# Altium integrated library Texas Instruments Interface 1394.IntLib: 47 symbols (part 17 of 17)
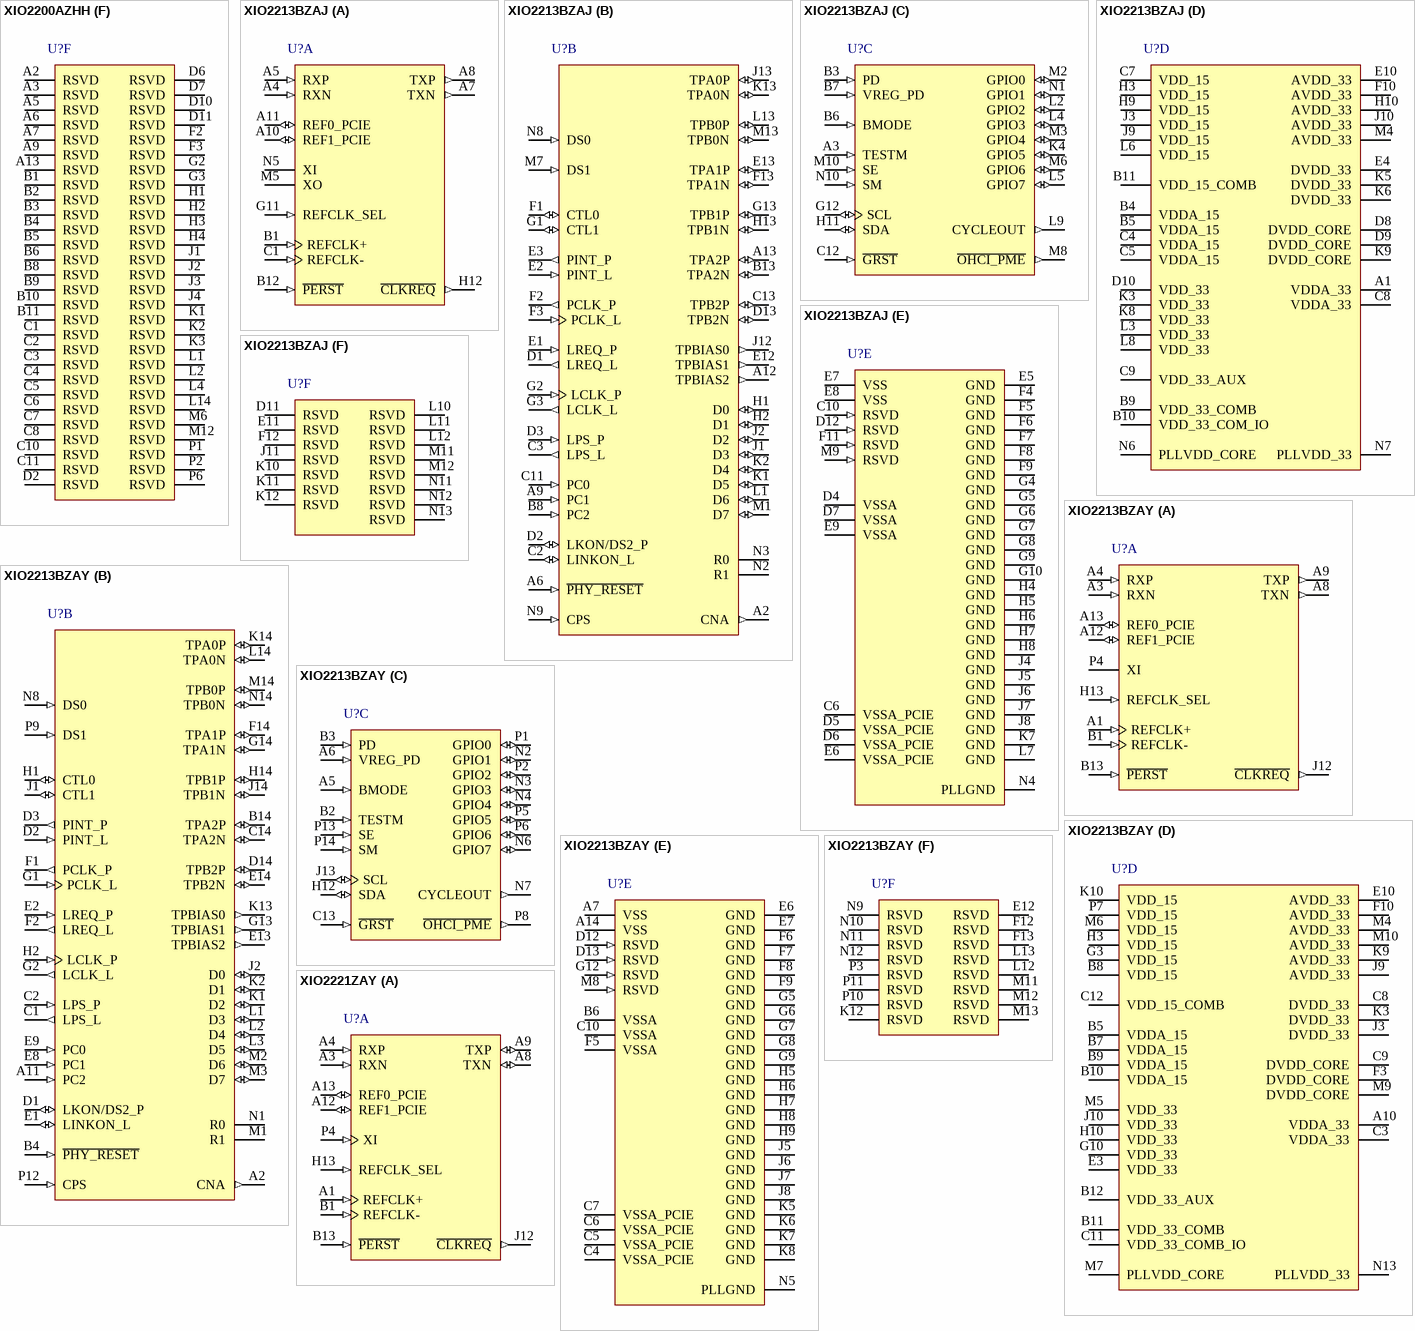
[diagram p27: symbols XIO2200AZHH to XIO2221ZAY]

## XIO2213BZAY
designator U?
PCI Express to 1394b OHCI with 3-Port PHY, 0 to 70 degC, 167-Pin NFBGA (ZAY), Green (RoHS & no Sb/Br); PartNumber: XIO2213BZAY; Manufacturer: Texas Instruments; SubFamily: 1394 Integrated Device; Speed(Max)(Mbps): 800; FIFO(kb): 8; DatasheetVersion: SCPS210D; PackageVersion: revC, Sep-2010; PackageReference: ZAY167; PackageDescription: 167-Ball Plastic Ball Grid Array, 12 x 12 mm Body, 0.8 mm Pitch; Mounting Technology: Surface Mount; ComponentLink1Description: Datasheet; ComponentLink1URL: http://www.ti.com/general/docs/lit/getliterature.tsp?genericPartNumber=XIO2213B&fileType=pdf; ComponentLink2Description: Package Specification; ComponentLink2URL: http://www.ti.com/litv/pdf/mpbg782b
footprint TI-ZAY167 (BGA, 167-Leads, Body 12x12mm, Pitch 0.8mm)
part A pins: A1 REFCLK+ (in) "Reference clock positive. REFCLK+ and REFCLK- comprise the differential input pair for the 100-MHz system reference clock. [see datasheet]", A3 RXN (in) "High-speed receive pair. RXP and RXN comprise the differential receive pair for the single PCIe lane supported.", A4 RXP (in) "High-speed receive pair. RXP and RXN comprise the differential receive pair for the single PCIe lane supported.", A8 TXN (out) "High-speed transmit pair. TXP and TXN comprise the differential transmit pair for the single PCIe lane supported.", A9 TXP (out) "High-speed transmit pair. TXP and TXN comprise the differential transmit pair for the single PCIe lane supported.", A12 REF1_PCIE (io) "External reference resistor + and terminals for setting TX driver current. An external resistor is connected between terminals REF0_PCIE and REF1_PCIE.", A13 REF0_PCIE (io) "External reference resistor + and terminals for setting TX driver current. An external resistor is connected between terminals REF0_PCIE and REF1_PCIE.", B1 REFCLK- (in) "Reference clock negative. REFCLK+ and REFCLK- comprise the differential input pair for the 100-MHz system reference clock. [see datasheet]", B13 ~{PERST} (in) "PCI Express reset. PERST identifies when the system power is stable and generates an internal power-on reset. Note: The PERST input buffer has hysteresis.", H13 REFCLK_SEL (in) "Reference clock select. This terminal selects the reference clock input.0 = 100-MHz differential common reference clock used.0 = 100-MHz differential common reference clock used", J12 ~{CLKREQ} (out) "Clock request. This terminal is used to support the clock request protocol.", P4 XI "Oscillator input. This terminal connects to a 98.304-MHz low-jitter external oscillator. XI is a 1.8-V CMOS input. Oscillator jitter must be 5-ps RMS or better. If only 3. [see datasheet]"
part B pins: A2 CNA (out) "Cable not active. This terminal is asserted high when there are no ports receiving incoming bias voltage. If it is not used, this terminal should be left unconnected.", A11 PC2 (in) "Power-class programming. On hardware reset, these inputs set the default value of the power class indicated during self-ID. [see datasheet]", B4 ~{PHY_RESET} (in) "Reset for the 1394 PHY logic", B14 TPA2P (io) "Port 2 twisted-pair cable A differential. [see datasheet]", C1 LPS_L (out) "LLC-section power status. This terminal must be connected to the LPS_P input terminal of the PHY section.", C2 LPS_P (in) "Link power status. This terminal must be connected to the LPS_L ouput terminal of the LLC section.", C14 TPA2N (io) "Port 2 twisted-pair cable A differential. [see datasheet]", D1 LKON/DS2_P (io) "Link-on notification. If port is to operate in DS mode or is unused then it is necessary to pull the terminal high through a 470-ohm or smaller resistor. [see datasheet]", D2 PINT_L (in) "PHY-section interrupt. The PHY section uses this signal to transfer status and interrupt information serially to the LLC section. [see datasheet]", D3 PINT_P (out) "PHY-section interrupt. PINT_P is a serial input to the LLC section from the PHY section that is used to transfer status, register, interrupt, and other information to the link. [see datasheet]", D14 TPB2P (io) "Port 2 twisted-pair cable A differential. [see datasheet]", E1 LINKON_L (io) "Link-on notification. [see datasheet]", E2 LREQ_P (in) "LLC-section request. [see datasheet]", E8 PC1 (in) "Power-class programming. On hardware reset, these inputs set the default value of the power class indicated during self-ID. [see datasheet]", E9 PC0 (in) "Power-class programming. On hardware reset, these inputs set the default value of the power class indicated during self-ID. [see datasheet]", E13 TPBIAS2 (out) "Twisted-pair bias. These terminals provide the 1. [see datasheet]", E14 TPB2N (io) "Port 2 twisted-pair cable A differential. [see datasheet]", F1 PCLK_P (out) "PHY-section clock. This terminal must be connected to the PCLK_L input of the LLC section.", F2 LREQ_L (out) "LLC-section request. The LLC section uses this output to initiate a service request to the PHY section.This terminal must be connected to the LREQ_P input of the PHY section.", F14 TPA1P (io) "Port 1 twisted-pair cable A differential. [see datasheet]", G1 PCLK_L (in) "PHY-section clock. This terminal must be connected to the PCLK_P output of the PHY section.", G2 LCLK_L (out) "LLC-section clock. This terminal must be connected to the LCLK_P input terminal of the PHY section.", G13 TPBIAS1 (out) "Twisted-pair bias. These terminals provide the 1. [see datasheet]", G14 TPA1N (io) "Port 1 twisted-pair cable A differential. [see datasheet]", H1 CTL0 (io) "Control. CTL[1:0] are bidirectional control bus signals that are used to indicate the phase of operation of the PHY link interface. [see datasheet]", H2 LCLK_P (in) "LLC-section clock. This terminal must be connected to the LCLK_L output terminal of the LLC section.", H14 TPB1P (io) "Port 1 twisted-pair cable A differential. [see datasheet]", J1 CTL1 (io) "Control. CTL[1:0] are bidirectional control bus signals that are used to indicate the phase of operation of the PHY link interface. [see datasheet]", J2 D0 (io) "PHY-section interrupt. The PHY section uses this signal to transfer status and interrupt information serially to the LLC section. [see datasheet]", J14 TPB1N (io) "Port 1 twisted-pair cable A differential. [see datasheet]", K1 D2 (io) "Data. D[7:0] comprise a bidirectional data bus that is used to carry 1394 packet data, packet speed, and grant type information between the PHY and the link. [see datasheet]", K2 D1 (io) "Data. D[7:0] comprise a bidirectional data bus that is used to carry 1394 packet data, packet speed, and grant type information between the PHY and the link. [see datasheet]", K13 TPBIAS0 (out) "Twisted-pair bias. These terminals provide the 1. [see datasheet]", K14 TPA0P (io) "Port 0 twisted-pair cable A differential. [see datasheet]", L1 D3 (io) "Data. D[7:0] comprise a bidirectional data bus that is used to carry 1394 packet data, packet speed, and grant type information between the PHY and the link. [see datasheet]", L2 D4 (io) "Data. D[7:0] comprise a bidirectional data bus that is used to carry 1394 packet data, packet speed, and grant type information between the PHY and the link. [see datasheet]", L3 D5 (io) "Data. D[7:0] comprise a bidirectional data bus that is used to carry 1394 packet data, packet speed, and grant type information between the PHY and the link. [see datasheet]", L14 TPA0N (io) "Port 0 twisted-pair cable A differential. [see datasheet]", M1 R1 "Current-setting resistor. These terminals are connected to an external resistance to set the internal operating currents and cable driver output currents. A resistance of 6. [see datasheet]", M2 D6 (io) "Data. D[7:0] comprise a bidirectional data bus that is used to carry 1394 packet data, packet speed, and grant type information between the PHY and the link. [see datasheet]", M3 D7 (io) "Data. D[7:0] comprise a bidirectional data bus that is used to carry 1394 packet data, packet speed, and grant type information between the PHY and the link. [see datasheet]", M14 TPB0P (io) "Port 0 twisted-pair cable A differential. [see datasheet]", N1 R0 "Current-setting resistor. These terminals are connected to an external resistance to set the internal operating currents and cable driver output currents. A resistance of 6. [see datasheet]", N8 DS0 (in) "Data-strobe-only mode for port 0. IEEE Std 1394a-2000-only port-0-enable programming terminal. [see datasheet]", N14 TPB0N (io) "Port 0 twisted-pair cable A differential. [see datasheet]", P9 DS1 (in) "Data-strobe-only mode for port 1. IEEE Std 1394a-2000-only port-1-enable programming terminal. [see datasheet]", P12 CPS (in) "Cable power status. This terminal is normally connected to cable power through a 400-kohm resistor. This circuit drives an internal comparator that detects the presence of cable power. [see datasheet]"
part C pins: A5 BMODE (in) "Beta mode. This terminal determines the PHY-section/LLC-section interface connection protocol. [see datasheet]", A6 VREG_PD (in) "Voltage regulator power-down input. When asserted logic high, this pin will power-down the internal 3.3- to 1.95V regulator. For single 3. [see datasheet]", B2 TESTM (in) "Test control. This input is used in the manufacturing test of the XIO2213B. For normal use, this terminal must be pulled high through a 1-kohm resistor to VDD.", B3 PD (in) "Power down. A high on this terminal turns off all internal circuitry, except the cable-active monitor circuits that control the CNA output. [see datasheet]", C13 ~{GRST} (in) "Global power reset. This reset brings all of the XIO2213B internal link registers to their default states. This should be a one-time power-on reset. [see datasheet]", H12 SDA (io) "Serial-bus data. This signal is used as serial bus data when a pullup is detected on SDA or when the SBDETECT bit is set in the serial bus control and status register. [see datasheet]", J13 SCL (io) "Serial-bus clock. This signal is used as a serial bus clock when a pullup is detected on SDA or when the SBDETECT bit is set in the serial bus control and status register. [see datasheet]", N2 GPIO1 (io) "General-purpose I/O 1. This terminal functions as a GPIO controlled by bit 1 (GPIO1_DIR) in the GPIO control register (see Section 4.60). [see datasheet]", N3 GPIO3 (io) "General-purpose I/O 3. This terminal functions as a GPIO controlled by bit 3 GPIO3_DIR) in the GPIO control register (see Section 4.60). [see datasheet]", N4 GPIO4 (io) "General-purpose I/O 4. This terminal functions as a GPIO controlled by bit 4 GPIO4_DIR) in the GPIO control register (see Section 4.60). [see datasheet]", N6 GPIO7 (io) "General-purpose I/O 7. This terminal functions as a GPIO controlled by bit 7 (GPIO7_DIR) in the GPIO control register (see Section 4.60). [see datasheet]", N7 CYCLEOUT (out) "Cycle out. This terminal provides an 8-kHz cycle timer synchronization signal. If not implemented, this terminal should be left unconnected.", P1 GPIO0 (io) "General-purpose I/O 0. This terminal functions as a GPIO controlled by bit 0 (GPIO0_DIR) in the GPIO control register (see Section 4.60). [see datasheet]", P2 GPIO2 (io) "General-purpose I/O 2. This terminal functions as a GPIO controlled by bit 2 (GPIO2_DIR) in the GPIO control register (see Section 4.60). [see datasheet]", P5 GPIO5 (io) "General-purpose I/O 5. This terminal functions as a GPIO controlled by bit 5 (GPIO5_DIR) in the GPIO control register (see Section 4.60). [see datasheet]", P6 GPIO6 (io) "General-purpose I/O 6. This terminal functions as a GPIO controlled by bit 6 (GPIO6_DIR) in the GPIO control register (see Section 4.60). [see datasheet]", P8 ~{OHCI_PME} (out) "OHCI power-management event. This is an optional signal that can be used by a device to request a change in the device or system power state. This signal must be enabled by software.", P13 SE (in) "Test control. This input is used in the manufacturing test of the XIO2213B. For normal use, this terminal must be pulled low either through a 1-kohm resistor to GND or directly to GND.", P14 SM (in) "Test control. This input is used in the manufacturing test of the XIO2213B. For normal use, this terminal must be pulled low either through a 1-kohm resistor to GND or directly to GND. [see datasheet]"
part D pins: A10 VDDA_33 (power) "3.3-V analog power for the link. This supply terminal is separated from the other power terminals internal to the device to provide noise isolation.", B5 VDDA_15 (power) "1.5-V analog power for the link", B7 VDDA_15 (power) "1.5-V analog power for the link", B8 VDD_15 (power) "1.5-V digital core power for the link", B9 VDDA_15 (power) "1.5-V analog power for the link", B10 VDDA_15 (power) "1.5-V analog power for the link", B11 VDD_33_COMB "Internal 3.3-V main power output for external bypass capacitor filtering Caution: Do not use this terminal to supply external power to other devices.", B12 VDD_33_AUX (power) "This terminal is connected to VSS through a pulldown resistor,since the XIO2213B does not support auxiliary power.", C3 VDDA_33 (power) "3.3-V analog power for the link. This supply terminal is separated from the other power terminals internal to the device to provide noise isolation.", C8 DVDD_33 (power) "3.3-V digital I/O power for the PHY", C9 DVDD_CORE (power) "Digital 1.95-V circuit power for the PHY. A combination of high-frequency decoupling capacitors near each terminal is suggested, such as paralleled 0.1 mF and 0.001 mF. [see datasheet]", C11 VDD_33_COMB_IO "Internal 3.3-V IO power output for external bypass capacitor filtering", C12 VDD_15_COMB "Internal 1.5-V main power output for external bypass capacitor filtering Caution: Do not use this terminal to supply external power to other devices.", E3 VDD_33 (power) "3.3-V digital I/O power for the link", E10 AVDD_33 (power) "3.3-V analog power for the PHY", F3 DVDD_CORE (power) "Digital 1.95-V circuit power for the PHY. A combination of high-frequency decoupling capacitors near each terminal is suggested, such as paralleled 0.1 mF and 0.001 mF. [see datasheet]", F10 AVDD_33 (power) "3.3-V analog power for the PHY", G3 VDD_15 (power) "1.5-V digital core power for the link", G10 VDD_33 (power) "3.3-V digital I/O power for the link", H3 VDD_15 (power) "1.5-V digital core power for the link", H10 VDD_33 (power) "3.3-V digital I/O power for the link", J3 DVDD_33 (power) "3.3-V digital I/O power for the PHY", J9 AVDD_33 (power) "3.3-V analog power for the PHY", J10 VDD_33 (power) "3.3-V digital I/O power for the link", K3 DVDD_33 (power) "3.3-V digital I/O power for the PHY", K9 AVDD_33 (power) "3.3-V analog power for the PHY", K10 VDD_15 (power) "1.5-V digital core power for the link", M4 AVDD_33 (power) "3.3-V analog power for the PHY", M5 VDD_33 (power) "3.3-V digital I/O power for the link", M6 VDD_15 (power) "1.5-V digital core power for the link", M7 PLLVDD_CORE (power) "PLL 1.95-V circuit power for the PHY. A combination of high-frequency decoupling capacitors near each terminal is suggested, such as paralleled 0.1 mF and 0.001 mF. [see datasheet]", M9 DVDD_CORE (power) "Digital 1.95-V circuit power for the PHY. A combination of high-frequency decoupling capacitors near each terminal suggested, such as paralleled 0.1 mF and 0.001 mF. [see datasheet]", M10 AVDD_33 (power) "3.3-V analog power for the PHY", N13 PLLVDD_33 "Reserved, do not connect to external signals.", P7 VDD_15 (power) "1.5-V digital core power for the link"
part E pins: A7 VSS (power) "Digital ground for link", A14 VSS (power) "Digital ground for link", B6 VSSA (power) "Analog ground for link", C4 VSSA_PCIE (power) "Analog ground for PCIe function", C5 VSSA_PCIE (power) "Analog ground for PCIe function", C6 VSSA_PCIE (power) "Analog ground for PCIe function", C7 VSSA_PCIE (power) "Analog ground for PCIe function", C10 VSSA (power) "Analog ground for link", D12 RSVD (in) "Must be connected to VSS.", D13 RSVD (in) "Must be connected to VSS.", E6 GND (power) "Ground. These terminals must be tied together to the low-impedance circuit-board ground plane.", E7 GND (power) "Ground. These terminals must be tied together to the low-impedance circuit-board ground plane.", F5 VSSA (power) "Analog ground for link", F6 GND (power) "Ground. These terminals must be tied together to the low-impedance circuit-board ground plane.", F7 GND (power) "Ground. These terminals must be tied together to the low-impedance circuit-board ground plane.", F8 GND (power) "Ground. These terminals must be tied together to the low-impedance circuit-board ground plane.", F9 GND (power) "Ground. These terminals must be tied together to the low-impedance circuit-board ground plane.", G5 GND (power) "Ground. These terminals must be tied together to the low-impedance circuit-board ground plane.", G6 GND (power) "Ground. These terminals must be tied together to the low-impedance circuit-board ground plane.", G7 GND (power) "Ground. These terminals must be tied together to the low-impedance circuit-board ground plane.", G8 GND (power) "Ground. These terminals must be tied together to the low-impedance circuit-board ground plane.", G9 GND (power) "Ground. These terminals must be tied together to the low-impedance circuit-board ground plane.", G12 RSVD (in) "Must be connected to VSS.", H5 GND (power) "Ground. These terminals must be tied together to the low-impedance circuit-board ground plane.", H6 GND (power) "Ground. These terminals must be tied together to the low-impedance circuit-board ground plane.", H7 GND (power) "Ground. These terminals must be tied together to the low-impedance circuit-board ground plane.", H8 GND (power) "Ground. These terminals must be tied together to the low-impedance circuit-board ground plane.", H9 GND (power) "Ground. These terminals must be tied together to the low-impedance circuit-board ground plane.", J5 GND (power) "Ground. These terminals must be tied together to the low-impedance circuit-board ground plane.", J6 GND (power) "Ground. These terminals must be tied together to the low-impedance circuit-board ground plane.", J7 GND (power) "Ground. These terminals must be tied together to the low-impedance circuit-board ground plane.", J8 GND (power) "Ground. These terminals must be tied together to the low-impedance circuit-board ground plane.", K5 GND (power) "Ground. These terminals must be tied together to the low-impedance circuit-board ground plane.", K6 GND (power) "Ground. These terminals must be tied together to the low-impedance circuit-board ground plane.", K7 GND (power) "Ground. These terminals must be tied together to the low-impedance circuit-board ground plane.", K8 GND (power) "Ground. These terminals must be tied together to the low-impedance circuit-board ground plane.", M8 RSVD (in) "Must be connected to VSS.", N5 PLLGND (power) "PLL circuit ground. This terminal must be tied to the low-impedance circuit-board ground plane."
part F pins: E12 RSVD "Reserved, do not connect to external signals.", F12 RSVD "Reserved, do not connect to external signals.", F13 RSVD "Reserved, do not connect to external signals.", K12 RSVD "Reserved, do not connect to external signals.", L12 RSVD "Reserved, do not connect to external signals.", L13 RSVD "Reserved, do not connect to external signals.", M11 RSVD "Reserved, do not connect to external signals.", M12 RSVD "Reserved, do not connect to external signals.", M13 RSVD "Reserved, do not connect to external signals.", N9 RSVD "Reserved, do not connect to external signals.", N10 RSVD "Reserved, do not connect to external signals.", N11 RSVD "Reserved, do not connect to external signals.", N12 RSVD "Reserved, do not connect to external signals.", P3 RSVD "Reserved, do not connect to external signals.", P10 RSVD "Reserved, do not connect to external signals.", P11 RSVD "Reserved, do not connect to external signals."

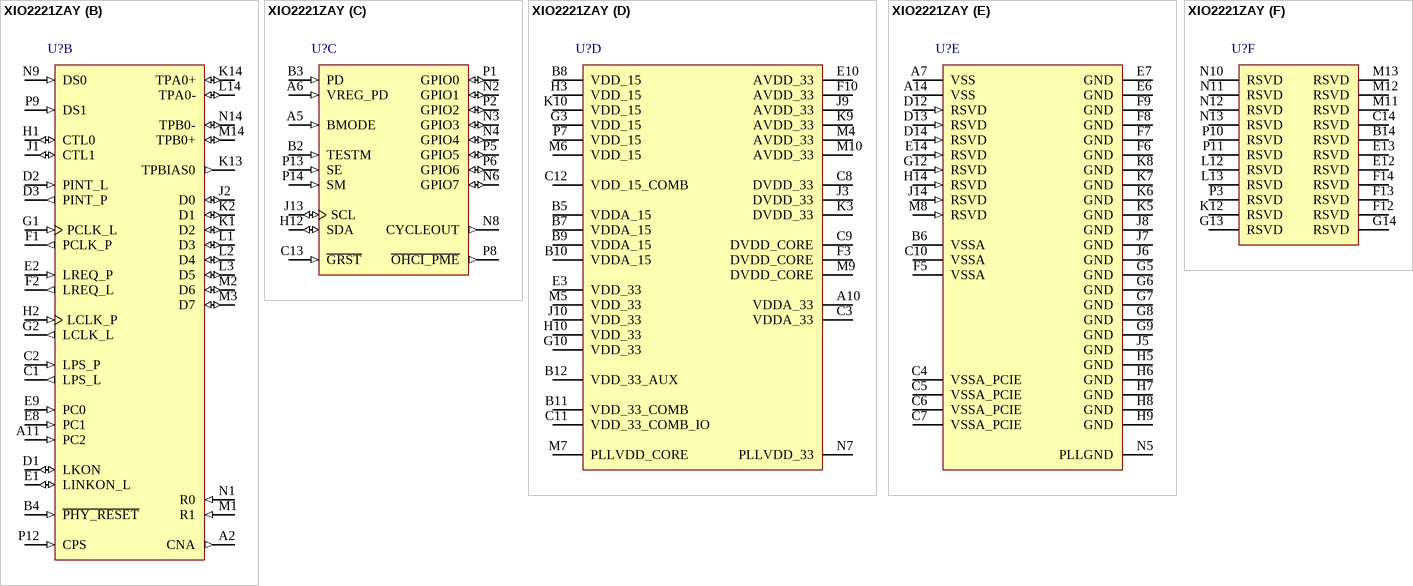
[diagram p11: symbol XIO2221ZAY]

## XIO2221ZAY
designator U?
PCI Express to 1394b OHCI with 1-Port PHY, 0 to 70 degC, 167-Pin NFBGA (ZAY), Green (RoHS & no Sb/Br); PartNumber: XIO2221ZAY; Manufacturer: Texas Instruments; SubFamily: 1394 Integrated Device; Speed(Max)(Mbps): 800; FIFO(kb): 8; DatasheetVersion: SCPS216A; PackageVersion: revC, Sep-2010; PackageReference: ZAY167; PackageDescription: 167-Ball Plastic Ball Grid Array, 12 x 12 mm Body, 0.8 mm Pitch; Mounting Technology: Surface Mount; ComponentLink1Description: Datasheet; ComponentLink1URL: http://www.ti.com/general/docs/lit/getliterature.tsp?genericPartNumber=XIO2221&fileType=pdf; ComponentLink2Description: Package Specification; ComponentLink2URL: http://www.ti.com/litv/pdf/mpbg782b
footprint TI-ZAY167 (BGA, 167-Leads, Body 12x12mm, Pitch 0.8mm)
part A pins: A1 REFCLK+ (in) "Reference clock positive. REFCLK+ and REFCLK- comprise the differential input pair for the 100-MHz system reference clock. [see datasheet]", A3 RXN (in) "High-speed receive pair. RXP and RXN comprise the differential receive pair for the single PCIe lane supported.", A4 RXP (in) "High-speed receive pair. RXP and RXN comprise the differential receive pair for the single PCIe lane supported.", A8 TXN (io) "High-speed transmit pair. TXP and TXN comprise the differential transmit pair for the single PCIe lane supported", A9 TXP (io) "High-speed transmit pair. TXP and TXN comprise the differential transmit pair for the single PCIe lane supported", A12 REF1_PCIE (io) "External reference resistor + and terminals for setting TX driver current. An external resistor is connected between terminals REF0_PCIE and REF1_PCIE.", A13 REF0_PCIE (io) "External reference resistor + and terminals for setting TX driver current. A  external resistor is connected between terminals REF0_PCIE and REF1_PCIE.", B1 REFCLK- (in) "Reference clock negative. REFCLK+ and REFCLK- comprise the differential input pair for the 100-MHz system reference clock. [see datasheet]", B13 ~{PERST} (in) ""PCI Express reset. P\E\R\ST\ identifies when the system power is stable and generates an internal power-on reset.", H13 REFCLK_SEL (in) "Reference clock select. This terminal selects the reference clock input.", J12 ~{CLKREQ} (out) "Clock request. This terminal is used to support the clock request protocol.", P4 XI (in) "Oscillator input. This terminal connects to a 98.304-MHz low-jitter external oscillator. XI is a 1.8-V CMOS input. Oscillator jitter must be 5-ps RMS or better.  [see datasheet]"
part B pins: A2 CNA (out) "Cable not active. This terminal is asserted high when there are no ports receiving incoming bias voltage. If it is not used, this terminal should be left unconnected.", A11 PC2 (in) "Power-class programming. On hardware reset, these inputs set the default value of the power class indicated during self-ID. [see datasheet]", B4 ~{PHY_RESET} (in) "Reset for the 1394 PHY logic", C1 LPS_L (out) "LLC-section power status. This terminal must be connected to the LPS_P input terminal of the PHY section.", C2 LPS_P (in) "Link power status. This terminal must be connected to the LPS_L ouput terminal of the LLC section.", D1 LKON (io) "Link-on notification. This terminal must be pulled high through a 470-ohm or smaller resistor. [see datasheet]", D2 PINT_L (in) "PHY-section interrupt. The PHY section uses this signal to transfer status and interrupt information serially to the LLC section. [see datasheet]", D3 PINT_P (out) "PHY-section interrupt. PINT_P is a serial input to the LLC section from the PHY section that is used to transfer status, register, interrupt, and other information to the link. [see datasheet]", E1 LINKON_L (io) "Link-on notification. [see datasheet]", E2 LREQ_P (in) "LLC-section request. [see datasheet]", E8 PC1 (in) "Power-class programming. On hardware reset, these inputs set the default value of the power class indicated during self-ID. [see datasheet]", E9 PC0 (in) "Power-class programming. On hardware reset, these inputs set the default value of the power class indicated during self-ID. [see datasheet]", F1 PCLK_P (out) "PHY-section clock. This terminal must be connected to the PCLK_L input of the LLC section.", F2 LREQ_L (out) "LLC-section request. The LLC section uses this output to initiate a service request to the PHY section.This terminal must be connected to the LREQ_P input of the PHY section.", G1 PCLK_L (in) "PHY-section clock. This terminal must be connected to the PCLK_P output of the PHY section", G2 LCLK_L (out) "LLC-section clock. This terminal must be connected to the LCLK_P input terminal of the PHY section.", H1 CTL0 (io) "Control. CTL[1:0] are bidirectional control bus signals that are used to indicate the phase of  operation of the PHY link interface. [see datasheet]", H2 LCLK_P (in) "LLC-section clock. This terminal must be connected to the LCLK_L output terminal of the LLC section.", J1 CTL1 (io) "Control. CTL[1:0] are bidirectional control bus signals that are used to indicate the phase of  operation of the PHY link interface. [see datasheet]", J2 D0 (io) "Data. D[7:0] comprise a bidirectional data bus that is used to carry 1394 packet data, packet speed, and grant type information between the PHY and the link. [see datasheet]", K1 D2 (io) "Data. D[7:0] comprise a bidirectional data bus that is used to carry 1394 packet data, packet speed, and grant type information between the PHY and the link. [see datasheet]", K2 D1 (io) "Data. D[7:0] comprise a bidirectional data bus that is used to carry 1394 packet data, packet speed, and grant type information between the PHY and the link. [see datasheet]", K13 TPBIAS0 (out) "Twisted-pair bias. [see datasheet]", K14 TPA0+ (io) "Port 0 twisted-pair cable A differential. [see datasheet]", L1 D3 (io) "Data. D[7:0] comprise a bidirectional data bus that is used to carry 1394 packet data, packet speed, and grant type information between the PHY and the link. [see datasheet]", L2 D4 (io) "Data. D[7:0] comprise a bidirectional data bus that is used to carry 1394 packet data, packet speed, and grant type information between the PHY and the link. [see datasheet]", L3 D5 (io) "Data. D[7:0] comprise a bidirectional data bus that is used to carry 1394 packet data, packet speed, and grant type information between the PHY and the link. [see datasheet]", L14 TPA0- (io) "Port 0 twisted-pair cable A differential. [see datasheet]", M1 R1 (in) "Current-setting resistor. These terminals are connected to an external resistance to set the internal operating currents and cable driver output currents.  [see datasheet]", M2 D6 (io) "Data. D[7:0] comprise a bidirectional data bus that is used to carry 1394 packet data, packet speed, and grant type information between the PHY and the link. [see datasheet]", M3 D7 (io) "Data. D[7:0] comprise a bidirectional data bus that is used to carry 1394 packet data, packet speed, and grant type information between the PHY and the link. [see datasheet]", M14 TPB0+ (io) "Port 0 twisted-pair cable A differential. [see datasheet]", N1 R0 (in) "Current-setting resistor. These terminals are connected to an external resistance to set the internal operating currents and cable driver output currents.  [see datasheet]", N9 DS0 (in) "Data-strobe-only mode for port 0. IEEE Std 1394a-2000-only port-0-enable programming terminal. [see datasheet]", N14 TPB0- (io) "Port 0 twisted-pair cable A differential. [see datasheet]", P9 DS1 (in) "This terminal must be tied high through a 10-kohm or smaller resistor.", P12 CPS (in) "Cable power status. This terminal is normally connected to cable power through a 400-kohm resistor. This circuit drives an internal comparator that detects the presence of cable power. [see datasheet]"
part C pins: A5 BMODE (in) "Beta mode. This terminal determines the PHY-section/LLC-section interface connection protocol. [see datasheet]", A6 VREG_PD (in) "Voltage regulator power-down input. When asserted logic high, this pin will power-down the internal 3.3-to-1.8V regulator.  [see datasheet]", B2 TESTM (in) "Test control. This input is used in the manufacturing test of the XIO2221. For normal use, this terminal must be pulled high through a 1-kohm resistor to VDD.", B3 PD (in) "Power down. A high on this terminal turns off all internal circuitry, except the cable-active monitor circuits that control the CNA output. [see datasheet]", C13 ~{GRST} (in) "Global power reset. This reset brings all of the XIO2221 internal link registers to their default states. This should be a one-time power-on reset. [see datasheet]", H12 SDA (io) "Serial-bus data. This signal is used as serial bus data when a pullup is detected on SDA of when the SBDETECT bit is set in the serial bus control and status register", J13 SCL (io) "Serial-bus clock. This signal is used as a serial bus clock when a pullup is detected on SDA or when the SBDETECT bit is set in the serial bus control and status register.", N2 GPIO1 (io) "General-purpose I/O 1. This terminal functions as a GPIO controlled by bit 1 (GPIO1_DIR) in the GPIO control register", N3 GPIO3 (io) "General-purpose I/O 3. This terminal functions as a GPIO controlled by bit 3 (GPIO3_DIR) in the GPIO control register", N4 GPIO4 (io) "General-purpose I/O 4. This terminal functions as a GPIO controlled by bit 4 (GPIO4_DIR) in the GPIO control register", N6 GPIO7 (io) "General-purpose I/O 7. This terminal functions as a GPIO controlled by bit 7 (GPIO7_DIR) in the GPIO control register", N8 CYCLEOUT (out) "Cycle out. This terminal provides an 8-kHz cycle timer synchronization signal. If not implemented, this terminal should be left unconnected.", P1 GPIO0 (io) "General-purpose I/O 0. This terminal functions as a GPIO controlled by bit 0 (GPIO0_DIR) in the GPIO control register", P2 GPIO2 (io) "General-purpose I/O 2. This terminal functions as a GPIO controlled by bit 2 (GPIO2_DIR) in the GPIO control register", P5 GPIO5 (io) "General-purpose I/O 5. This terminal functions as a GPIO controlled by bit 5 (GPIO5_DIR) in the GPIO control register", P6 GPIO6 (io) "General-purpose I/O 6. This terminal functions as a GPIO controlled by bit 6 (GPIO6_DIR) in the GPIO control register", P8 ~{OHCI_PME} (out) "OHCI power-management event. This is an optional signal that can be used by a device to request a change in the device or system power state. This signal must be enabled by software", P13 SE (in) "Test control. This input is used in the manufacturing test of the XIO2221. For normal use, this terminal must be pulled low either through a 1-kohm resistor to GND or directly to GND.", P14 SM (in) "Test control. This input is used in the manufacturing test of the XIO2221. For normal use, this terminal must be pulled low either through a 1-kohm resistor to GND or directly to GND."
part D pins: A10 VDDA_33 (power) "3.3-V analog power for the link. This supply terminal is separated from the other power terminals internal to the device to provide noise isolation.", B5 VDDA_15 (power) "1.5-V analog power for the link", B7 VDDA_15 (power) "1.5-V analog power for the link", B8 VDD_15 (power) "1.5-V digital core power for the link", B9 VDDA_15 (power) "1.5-V analog power for the link", B10 VDDA_15 (power) "1.5-V analog power for the link", B11 VDD_33_COMB "Internal 3.3-V main power output for external bypass capacitor filtering Caution: Do not use this terminal to supply external power to other devices.", B12 VDD_33_AUX (power) "This terminal is connected to VSS through a pulldown resistor, since the XIO2221 does not support auxiliary power.", C3 VDDA_33 (power) "3.3-V analog power for the link. This supply terminal is separated from the other power terminals internal to the device to provide noise isolation.", C8 DVDD_33 (power) "3.3-V digital I/O power for the PHY", C9 DVDD_CORE (power) "Digital 1.95-V circuit power for the PHY. A combination of high-frequency decoupling capacitors near each terminal is suggested, such as paralleled 0.1 mF and 0.001 mF. [see datasheet]", C11 VDD_33_COMB_IO (power) "Internal 3.3-V IO power output for external bypass capacitor filtering Caution: Do not use this terminal to supply external power to other devices.", C12 VDD_15_COMB "Internal 1.5-V main power output for external bypass capacitor filterin  Caution: Do not use this terminal to supply external power to other devices.", E3 VDD_33 (power) "3.3-V digital I/O power for the link", E10 AVDD_33 (power) "3.3-V analog power for the PHY", F3 DVDD_CORE (power) "Digital 1.95-V circuit power for the PHY. A combination of high-frequency decoupling capacitors near each terminal is suggested, such as paralleled 0.1 mF and 0.001 mF. [see datasheet]", F10 AVDD_33 (power) "3.3-V analog power for the PHY", G3 VDD_15 (power) "1.5-V digital core power for the link", G10 VDD_33 (power) "3.3-V digital I/O power for the link", H3 VDD_15 (power) "1.5-V digital core power for the link", H10 VDD_33 (power) "3.3-V digital I/O power for the link", J3 DVDD_33 (power) "3.3-V digital I/O power for the PHY", J9 AVDD_33 (power) "3.3-V analog power for the PHY", J10 VDD_33 (power) "3.3-V digital I/O power for the link", K3 DVDD_33 (power) "3.3-V digital I/O power for the link", K9 AVDD_33 (power) "3.3-V analog power for the PHY", K10 VDD_15 (power) "1.5-V digital core power for the link", M4 AVDD_33 (power) "3.3-V analog power for the PHY", M5 VDD_33 (power) "3.3-V digital I/O power for the link", M6 VDD_15 (power) "1.5-V digital core power for the link", M7 PLLVDD_CORE (power) "PLL 1.95-V circuit power for the PHY. A combination of high-frequency decoupling capacitors near each terminal is suggested, such as paralleled 0.1 mF and 0.001 mF. [see datasheet]", M9 DVDD_CORE (power) "Digital 1.95-V circuit power for the PHY. A combination of high-frequency decoupling capacitors near each terminal is suggested, such as paralleled 0.1 mF and 0.001 mF. [see datasheet]", M10 AVDD_33 (power) "3.3-V analog power for the PHY", N7 PLLVDD_33 (power) "PLL 3.3-V circuit power for the PHY. This supply terminal is separated from the other power terminals internal to the device to provide noise isolation. [see datasheet]", P7 VDD_15 (power) "1.5-V digital core power for the link"
part E pins: A7 VSS (power) "Digital ground for link", A14 VSS (power) "Digital ground for link", B6 VSSA (power) "Analog ground for link", C4 VSSA_PCIE (power) "Analog ground for PCIe function", C5 VSSA_PCIE (power) "Analog ground for PCIe function", C6 VSSA_PCIE (power) "Analog ground for PCIe function", C7 VSSA_PCIE (power) "Analog ground for PCIe function", C10 VSSA (power) "Analog ground for link", D12 RSVD (in) "Must be connected to VSS.", D13 RSVD (in) "Must be connected to VSS.", D14 RSVD (in) "Must be connected to VSS.", E6 GND (power) "Ground. These terminals must be tied together to the low-impedanc circuit-board ground plane.", E7 GND (power) "Ground. These terminals must be tied together to the low-impedanc circuit-board ground plane.", E14 RSVD (in) "Must be connected to VSS.", F5 VSSA (power) "Analog ground for link", F6 GND (power) "Ground. These terminals must be tied together to the low-impedanc circuit-board ground plane.", F7 GND (power) "Ground. These terminals must be tied together to the low-impedanc circuit-board ground plane.", F8 GND (power) "Ground. These terminals must be tied together to the low-impedanc circuit-board ground plane.", F9 GND (power) "Ground. These terminals must be tied together to the low-impedanc circuit-board ground plane.", G5 GND (power) "Ground. These terminals must be tied together to the low-impedanc circuit-board ground plane.", G6 GND (power) "Ground. These terminals must be tied together to the low-impedanc circuit-board ground plane.", G7 GND (power) "Ground. These terminals must be tied together to the low-impedanc circuit-board ground plane.", G8 GND (power) "Ground. These terminals must be tied together to the low-impedanc circuit-board ground plane.", G9 GND (power) "Ground. These terminals must be tied together to the low-impedanc circuit-board ground plane.", G12 RSVD (in) "Must be connected to VSS.", H5 GND (power) "Ground. These terminals must be tied together to the low-impedanc circuit-board ground plane.", H6 GND (power) "Ground. These terminals must be tied together to the low-impedanc circuit-board ground plane.", H7 GND (power) "Ground. These terminals must be tied together to the low-impedanc circuit-board ground plane.", H8 GND (power) "Ground. These terminals must be tied together to the low-impedanc circuit-board ground plane.", H9 GND (power) "Ground. These terminals must be tied together to the low-impedanc circuit-board ground plane.", H14 RSVD (in) "Must be connected to VSS", J5 GND (power) "Ground. These terminals must be tied together to the low-impedanc circuit-board ground plane.", J6 GND (power) "Ground. These terminals must be tied together to the low-impedanc circuit-board ground plane.", J7 GND (power) "Ground. These terminals must be tied together to the low-impedanc circuit-board ground plane.", J8 GND (power) "Ground. These terminals must be tied together to the low-impedanc circuit-board ground plane.", J14 RSVD (in) "Must be connected to VSS", K5 GND (power) "Ground. These terminals must be tied together to the low-impedanc circuit-board ground plane.", K6 GND (power) "Ground. These terminals must be tied together to the low-impedanc circuit-board ground plane.", K7 GND (power) "Ground. These terminals must be tied together to the low-impedanc circuit-board ground plane.", K8 GND (power) "Ground. These terminals must be tied together to the low-impedanc circuit-board ground plane.", M8 RSVD (in) "Must be connected to VSS.", N5 PLLGND (power) "PLL circuit ground. This terminal must be tied to the low-impedance circuit-board ground plane."
part F pins: B14 RSVD "Reserved, do not connect to external signals", C14 RSVD "Reserved, do not connect to external signals", E12 RSVD "Reserved, do not connect to external signals", E13 RSVD "Reserved, do not connect to external signals", F12 RSVD "Reserved, do not connect to external signals", F13 RSVD "Reserved, do not connect to external signals.", F14 RSVD "Reserved, do not connect to external signals.", G13 RSVD "Reserved, do not connect to external signals", G14 RSVD "Reserved, do not connect to external signals", K12 RSVD "Reserved, do not connect to external signals", L12 RSVD "Reserved, do not connect to external signals", L13 RSVD "Reserved, do not connect to external signals", M11 RSVD "Reserved, do not connect to external signals", M12 RSVD "Reserved, do not connect to external signals", M13 RSVD "Reserved, do not connect to external signals", N10 RSVD "Reserved, do not connect to external signals.", N11 RSVD "Reserved, do not connect to external signals.", N12 RSVD "Reserved, do not connect to external signals.", N13 RSVD "Reserved, do not connect to external signals.", P3 RSVD "Reserved, do not connect to external signals.", P10 RSVD "Reserved, do not connect to external signals.", P11 RSVD "Reserved, do not connect to external signals."